# EAGLE library part DMN5L06DMK (library DMN5L06DMK)
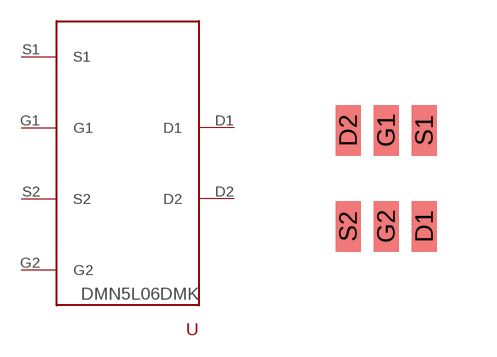
[diagram p0: symbol with the pads of DMN5L06DMK; footprint DMN5L06DMK]

Designator prefix -

## DMN5L06DMK  [DMN5L06DMK]
D1  D1  out
D2  D2  out
G1  G1  in
G2  G2  in
S1  S1  in
S2  S2  in

## Footprint DMN5L06DMK (pad centres in mm)
smd 0.635 x 1.27: D1 0.95,-1.2; D2 -0.95,1.2; G1 0,1.2; G2 0,-1.2; S1 0.95,1.2; S2 -0.95,-1.2